# Altium schematic symbol library Sensor_Current.SchLib: 261 symbols (part 2 of 3)
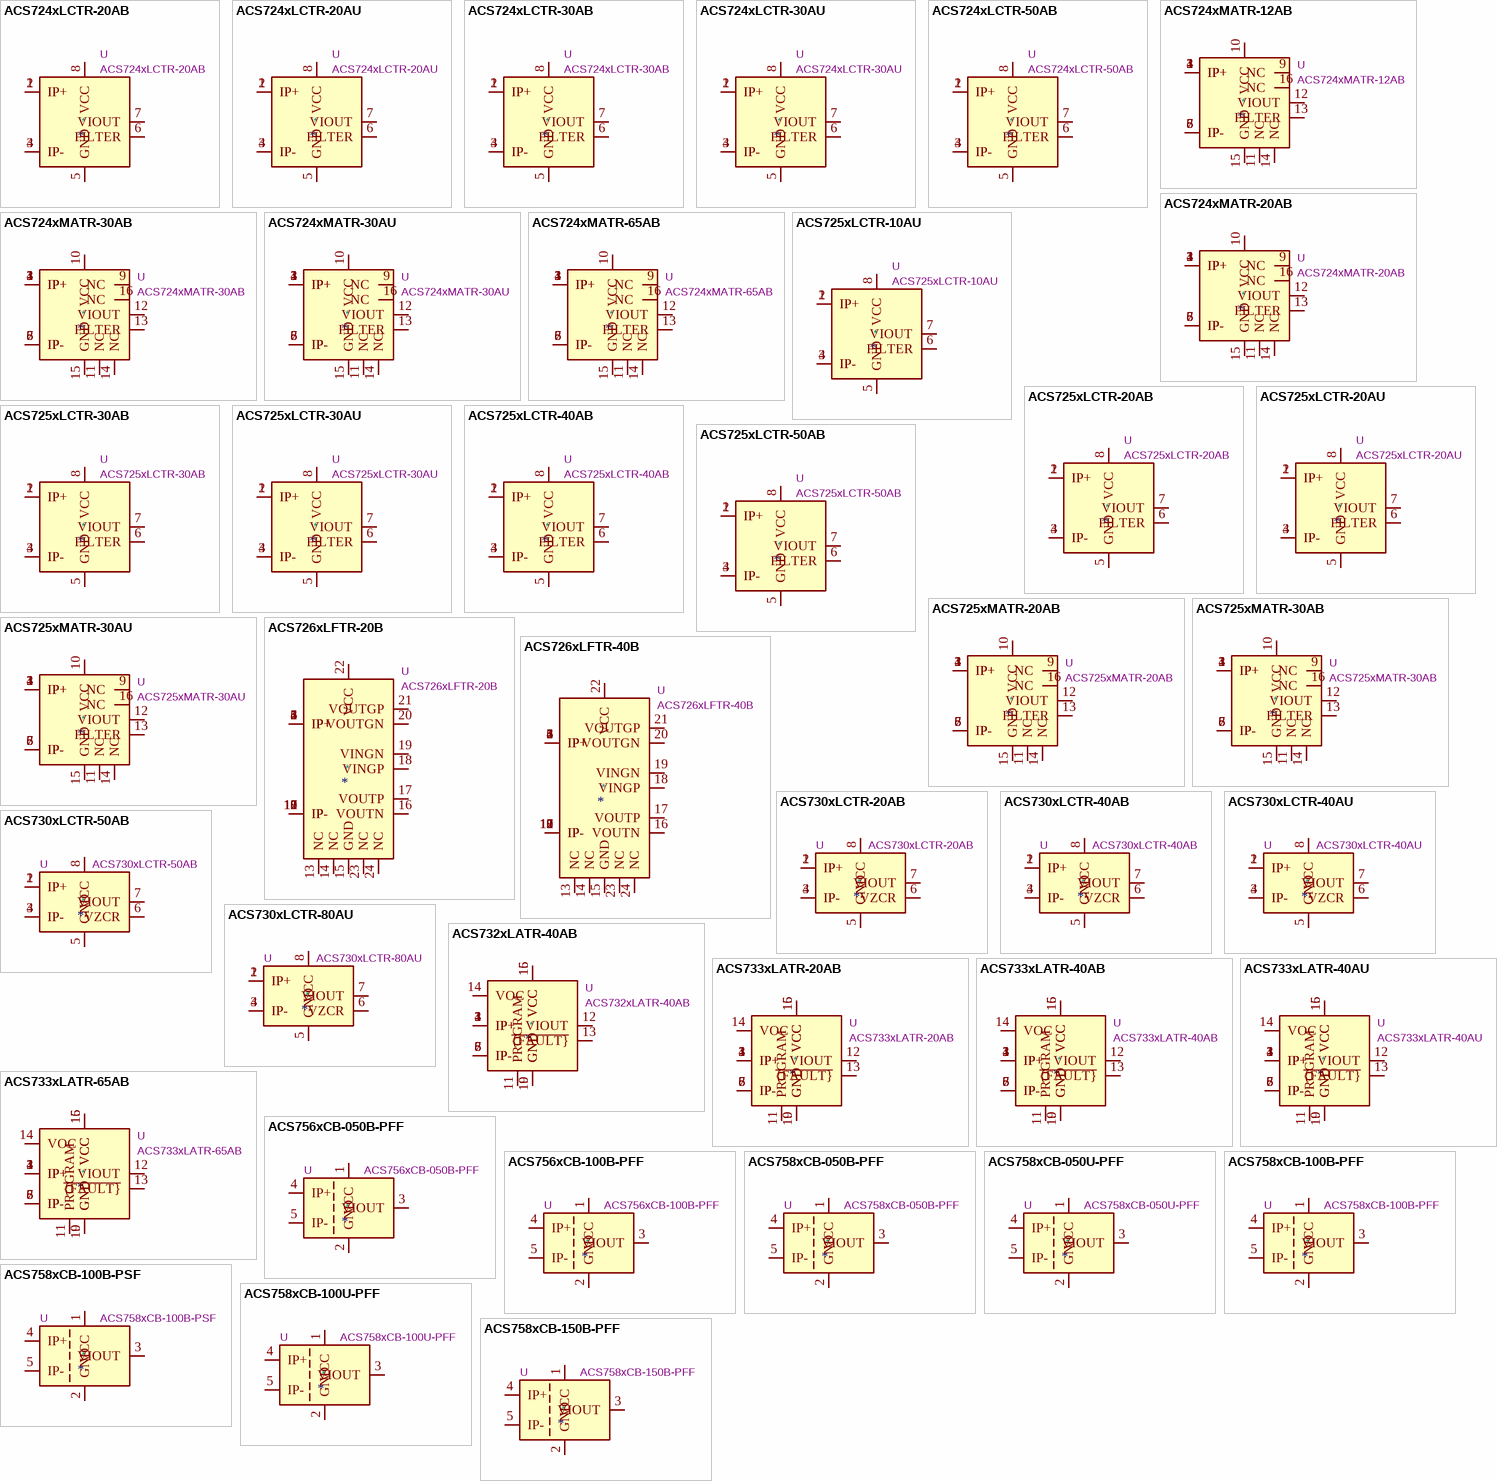
[diagram p7: symbols ACS724xLCTR-20AB to ACS758xCB-150B-PFF]

## ACS724xMATR-20AB
designator *  value ACS724xMATR-20AB  Reference: U
±20A Bidirectional Hall-Effect Current Sensor, +5.0V supply, 100mV/A, SOIC-16; ki_keywords: hall effect current monitor sensor isolated; ki_fp_filters: SOIC*7.5x10.3mm*P1.27mm*; Footprint: Package_SO:SOIC-16W_7.5x10.3mm_P1.27mm; Datasheet: http://www.allegromicro.com/~/media/Files/Datasheets/ACS724KMA-Datasheet.ashx?la=en; Description_: ±20A Bidirectional Hall-Effect Current Sensor, +5.0V supply, 100mV/A, SOIC-16
pins: 1 IP+, 2 IP+, 3 IP+, 4 IP+, 5 IP-, 6 IP-, 7 IP-, 8 IP-, 9 NC, 10 VCC, 11 NC, 12 VIOUT, 13 FILTER, 14 NC, 15 GND, 16 NC

## ACS724xMATR-30AB
designator *  value ACS724xMATR-30AB  Reference: U
±30A Bidirectional Hall-Effect Current Sensor, +5.0V supply, 66mV/A, SOIC-16; ki_keywords: hall effect current monitor sensor isolated; ki_fp_filters: SOIC*7.5x10.3mm*P1.27mm*; Footprint: Package_SO:SOIC-16W_7.5x10.3mm_P1.27mm; Datasheet: http://www.allegromicro.com/~/media/Files/Datasheets/ACS724KMA-Datasheet.ashx?la=en; Description_: ±30A Bidirectional Hall-Effect Current Sensor, +5.0V supply, 66mV/A, SOIC-16
pins: 1 IP+, 2 IP+, 3 IP+, 4 IP+, 5 IP-, 6 IP-, 7 IP-, 8 IP-, 9 NC, 10 VCC, 11 NC, 12 VIOUT, 13 FILTER, 14 NC, 15 GND, 16 NC

## ACS724xMATR-30AU
designator *  value ACS724xMATR-30AU  Reference: U
30A Unidirectional Hall-Effect Current Sensor, +5.0V supply, 132mV/A, SOIC-16; ki_keywords: hall effect current monitor sensor isolated; ki_fp_filters: SOIC*7.5x10.3mm*P1.27mm*; Footprint: Package_SO:SOIC-16W_7.5x10.3mm_P1.27mm; Datasheet: http://www.allegromicro.com/~/media/Files/Datasheets/ACS724KMA-Datasheet.ashx?la=en; Description_: 30A Unidirectional Hall-Effect Current Sensor, +5.0V supply, 132mV/A, SOIC-16
pins: 1 IP+, 2 IP+, 3 IP+, 4 IP+, 5 IP-, 6 IP-, 7 IP-, 8 IP-, 9 NC, 10 VCC, 11 NC, 12 VIOUT, 13 FILTER, 14 NC, 15 GND, 16 NC

## ACS724xMATR-65AB
designator *  value ACS724xMATR-65AB  Reference: U
±65A Bidirectional Hall-Effect Current Sensor, +5.0V supply, 30.75mV/A, SOIC-16; ki_keywords: hall effect current monitor sensor isolated; ki_fp_filters: SOIC*7.5x10.3mm*P1.27mm*; Footprint: Package_SO:SOIC-16W_7.5x10.3mm_P1.27mm; Datasheet: http://www.allegromicro.com/~/media/Files/Datasheets/ACS724KMA-Datasheet.ashx?la=en; Description_: ±65A Bidirectional Hall-Effect Current Sensor, +5.0V supply, 30.75mV/A, SOIC-16
pins: 1 IP+, 2 IP+, 3 IP+, 4 IP+, 5 IP-, 6 IP-, 7 IP-, 8 IP-, 9 NC, 10 VCC, 11 NC, 12 VIOUT, 13 FILTER, 14 NC, 15 GND, 16 NC

## ACS725xLCTR-10AU
designator *  value ACS725xLCTR-10AU  Reference: U
10A Unidirectional Hall-Effect Current Sensor, +3.3V supply, 264mV/A, SOIC-8; ki_keywords: hall effect current monitor sensor isolated; ki_fp_filters: SOIC*3.9x4.9m*P1.27mm*; Footprint: Package_SO:SOIC-8_3.9x4.9mm_P1.27mm; Datasheet: http://www.allegromicro.com/~/media/Files/Datasheets/ACS725-Datasheet.ashx?la=en; Description_: 10A Unidirectional Hall-Effect Current Sensor, +3.3V supply, 264mV/A, SOIC-8
pins: 1 IP+, 2 IP+, 3 IP-, 4 IP-, 5 GND, 6 FILTER, 7 VIOUT, 8 VCC

## ACS725xLCTR-20AB
designator *  value ACS725xLCTR-20AB  Reference: U
±20A Bidirectional Hall-Effect Current Sensor, +3.3V supply, 66mV/A, SOIC-8; ki_keywords: hall effect current monitor sensor isolated; ki_fp_filters: SOIC*3.9x4.9m*P1.27mm*; Footprint: Package_SO:SOIC-8_3.9x4.9mm_P1.27mm; Datasheet: http://www.allegromicro.com/~/media/Files/Datasheets/ACS725-Datasheet.ashx?la=en; Description_: ±20A Bidirectional Hall-Effect Current Sensor, +3.3V supply, 66mV/A, SOIC-8
pins: 1 IP+, 2 IP+, 3 IP-, 4 IP-, 5 GND, 6 FILTER, 7 VIOUT, 8 VCC

## ACS725xLCTR-20AU
designator *  value ACS725xLCTR-20AU  Reference: U
20A Unidirectional Hall-Effect Current Sensor, +3.3V supply, 132mV/A, SOIC-8; ki_keywords: hall effect current monitor sensor isolated; ki_fp_filters: SOIC*3.9x4.9m*P1.27mm*; Footprint: Package_SO:SOIC-8_3.9x4.9mm_P1.27mm; Datasheet: http://www.allegromicro.com/~/media/Files/Datasheets/ACS725-Datasheet.ashx?la=en; Description_: 20A Unidirectional Hall-Effect Current Sensor, +3.3V supply, 132mV/A, SOIC-8
pins: 1 IP+, 2 IP+, 3 IP-, 4 IP-, 5 GND, 6 FILTER, 7 VIOUT, 8 VCC

## ACS725xLCTR-30AB
designator *  value ACS725xLCTR-30AB  Reference: U
±30A Bidirectional Hall-Effect Current Sensor, +3.3V supply, 44mV/A, SOIC-8; ki_keywords: hall effect current monitor sensor isolated; ki_fp_filters: SOIC*3.9x4.9m*P1.27mm*; Footprint: Package_SO:SOIC-8_3.9x4.9mm_P1.27mm; Datasheet: http://www.allegromicro.com/~/media/Files/Datasheets/ACS725-Datasheet.ashx?la=en; Description_: ±30A Bidirectional Hall-Effect Current Sensor, +3.3V supply, 44mV/A, SOIC-8
pins: 1 IP+, 2 IP+, 3 IP-, 4 IP-, 5 GND, 6 FILTER, 7 VIOUT, 8 VCC

## ACS725xLCTR-30AU
designator *  value ACS725xLCTR-30AU  Reference: U
30A Unidirectional Hall-Effect Current Sensor, +3.3V supply, 88mV/A, SOIC-8; ki_keywords: hall effect current monitor sensor isolated; ki_fp_filters: SOIC*3.9x4.9m*P1.27mm*; Footprint: Package_SO:SOIC-8_3.9x4.9mm_P1.27mm; Datasheet: http://www.allegromicro.com/~/media/Files/Datasheets/ACS725-Datasheet.ashx?la=en; Description_: 30A Unidirectional Hall-Effect Current Sensor, +3.3V supply, 88mV/A, SOIC-8
pins: 1 IP+, 2 IP+, 3 IP-, 4 IP-, 5 GND, 6 FILTER, 7 VIOUT, 8 VCC

## ACS725xLCTR-40AB
designator *  value ACS725xLCTR-40AB  Reference: U
±40A Bidirectional Hall-Effect Current Sensor, +3.3V supply, 33mV/A, SOIC-8; ki_keywords: hall effect current monitor sensor isolated; ki_fp_filters: SOIC*3.9x4.9m*P1.27mm*; Footprint: Package_SO:SOIC-8_3.9x4.9mm_P1.27mm; Datasheet: http://www.allegromicro.com/~/media/Files/Datasheets/ACS725-Datasheet.ashx?la=en; Description_: ±40A Bidirectional Hall-Effect Current Sensor, +3.3V supply, 33mV/A, SOIC-8
pins: 1 IP+, 2 IP+, 3 IP-, 4 IP-, 5 GND, 6 FILTER, 7 VIOUT, 8 VCC

## ACS725xLCTR-50AB
designator *  value ACS725xLCTR-50AB  Reference: U
±50A Bidirectional Hall-Effect Current Sensor, +3.3V supply, 26.4mV/A, SOIC-8; ki_keywords: hall effect current monitor sensor isolated; ki_fp_filters: SOIC*3.9x4.9m*P1.27mm*; Footprint: Package_SO:SOIC-8_3.9x4.9mm_P1.27mm; Datasheet: http://www.allegromicro.com/~/media/Files/Datasheets/ACS725-Datasheet.ashx?la=en; Description_: ±50A Bidirectional Hall-Effect Current Sensor, +3.3V supply, 26.4mV/A, SOIC-8
pins: 1 IP+, 2 IP+, 3 IP-, 4 IP-, 5 GND, 6 FILTER, 7 VIOUT, 8 VCC

## ACS725xMATR-20AB
designator *  value ACS725xMATR-20AB  Reference: U
±20A Bidirectional Hall-Effect Current Sensor, +3.3V supply, 66mV/A, SOIC-16; ki_keywords: hall effect current monitor sensor isolated; ki_fp_filters: SOIC*7.5x10.3mm*P1.27mm*; Footprint: Package_SO:SOIC-16W_7.5x10.3mm_P1.27mm; Datasheet: http://www.allegromicro.com/~/media/Files/Datasheets/ACS725KMA-Datasheet.ashx?la=en; Description_: ±20A Bidirectional Hall-Effect Current Sensor, +3.3V supply, 66mV/A, SOIC-16
pins: 1 IP+, 2 IP+, 3 IP+, 4 IP+, 5 IP-, 6 IP-, 7 IP-, 8 IP-, 9 NC, 10 VCC, 11 NC, 12 VIOUT, 13 FILTER, 14 NC, 15 GND, 16 NC

## ACS725xMATR-30AB
designator *  value ACS725xMATR-30AB  Reference: U
±30A Bidirectional Hall-Effect Current Sensor, +3.3V supply, 44mV/A, SOIC-16; ki_keywords: hall effect current monitor sensor isolated; ki_fp_filters: SOIC*7.5x10.3mm*P1.27mm*; Footprint: Package_SO:SOIC-16W_7.5x10.3mm_P1.27mm; Datasheet: http://www.allegromicro.com/~/media/Files/Datasheets/ACS725KMA-Datasheet.ashx?la=en; Description_: ±30A Bidirectional Hall-Effect Current Sensor, +3.3V supply, 44mV/A, SOIC-16
pins: 1 IP+, 2 IP+, 3 IP+, 4 IP+, 5 IP-, 6 IP-, 7 IP-, 8 IP-, 9 NC, 10 VCC, 11 NC, 12 VIOUT, 13 FILTER, 14 NC, 15 GND, 16 NC

## ACS725xMATR-30AU
designator *  value ACS725xMATR-30AU  Reference: U
30A Unidirectional Hall-Effect Current Sensor, +3.3V supply, 88mV/A, SOIC-16; ki_keywords: hall effect current monitor sensor isolated; ki_fp_filters: SOIC*7.5x10.3mm*P1.27mm*; Footprint: Package_SO:SOIC-16W_7.5x10.3mm_P1.27mm; Datasheet: http://www.allegromicro.com/~/media/Files/Datasheets/ACS725KMA-Datasheet.ashx?la=en; Description_: 30A Unidirectional Hall-Effect Current Sensor, +3.3V supply, 88mV/A, SOIC-16
pins: 1 IP+, 2 IP+, 3 IP+, 4 IP+, 5 IP-, 6 IP-, 7 IP-, 8 IP-, 9 NC, 10 VCC, 11 NC, 12 VIOUT, 13 FILTER, 14 NC, 15 GND, 16 NC

## ACS726xLFTR-20B
designator *  value ACS726xLFTR-20B  Reference: U
±20A Bidirectional Hall-Effect Current Sensor, +3.3V supply, 100mV/A, QSOP-24; ki_keywords: hall effect current monitor sensor isolated; ki_fp_filters: Allegro*QSOP*3.9x8.7mm*P0.635mm*; Footprint: Sensor_Current:Allegro_QSOP-24_3.9x8.7mm_P0.635mm; Datasheet: http://www.allegromicro.com/~/media/Files/Datasheets/ACS726-Datasheet.ashx?la=en; Description_: ±20A Bidirectional Hall-Effect Current Sensor, +3.3V supply, 100mV/A, QSOP-24
pins: 1 IP+, 2 IP+, 3 IP+, 4 IP+, 5 IP+, 6 IP+, 7 IP-, 8 IP-, 9 IP-, 10 IP-, 11 IP-, 12 IP-, 13 NC, 14 NC, 15 GND, 16 VOUTN, 17 VOUTP, 18 VINGP, 19 VINGN, 20 VOUTGN, 21 VOUTGP, 22 VCC, 23 NC, 24 NC

## ACS726xLFTR-40B
designator *  value ACS726xLFTR-40B  Reference: U
±40A Bidirectional Hall-Effect Current Sensor, +3.3V supply, 50mV/A, QSOP-24; ki_keywords: hall effect current monitor sensor isolated; ki_fp_filters: Allegro*QSOP*3.9x8.7mm*P0.635mm*; Footprint: Sensor_Current:Allegro_QSOP-24_3.9x8.7mm_P0.635mm; Datasheet: http://www.allegromicro.com/~/media/Files/Datasheets/ACS726-Datasheet.ashx?la=en; Description_: ±40A Bidirectional Hall-Effect Current Sensor, +3.3V supply, 50mV/A, QSOP-24
pins: 1 IP+, 2 IP+, 3 IP+, 4 IP+, 5 IP+, 6 IP+, 7 IP-, 8 IP-, 9 IP-, 10 IP-, 11 IP-, 12 IP-, 13 NC, 14 NC, 15 GND, 16 VOUTN, 17 VOUTP, 18 VINGP, 19 VINGN, 20 VOUTGN, 21 VOUTGP, 22 VCC, 23 NC, 24 NC

## ACS730xLCTR-20AB
designator *  value ACS730xLCTR-20AB  Reference: U
±20A Bidirectional Hall-Effect Current Sensor, +5.0V supply, 100mV/A, SOIC-8; ki_keywords: hall effect current monitor sensor isolated; ki_fp_filters: SOIC*3.9x4.9mm*P1.27mm*; Footprint: Package_SO:SOIC-8_3.9x4.9mm_P1.27mm; Datasheet: http://www.allegromicro.com/~/media/Files/Datasheets/ACS730-Datasheet.ashx?la=en; Description_: ±20A Bidirectional Hall-Effect Current Sensor, +5.0V supply, 100mV/A, SOIC-8
pins: 1 IP+, 2 IP+, 3 IP-, 4 IP-, 5 GND, 6 VZCR, 7 VIOUT, 8 VCC

## ACS730xLCTR-40AB
designator *  value ACS730xLCTR-40AB  Reference: U
±40A Bidirectional Hall-Effect Current Sensor, +5.0V supply, 50mV/A, SOIC-8; ki_keywords: hall effect current monitor sensor isolated; ki_fp_filters: SOIC*3.9x4.9mm*P1.27mm*; Footprint: Package_SO:SOIC-8_3.9x4.9mm_P1.27mm; Datasheet: http://www.allegromicro.com/~/media/Files/Datasheets/ACS730-Datasheet.ashx?la=en; Description_: ±40A Bidirectional Hall-Effect Current Sensor, +5.0V supply, 50mV/A, SOIC-8
pins: 1 IP+, 2 IP+, 3 IP-, 4 IP-, 5 GND, 6 VZCR, 7 VIOUT, 8 VCC

## ACS730xLCTR-40AU
designator *  value ACS730xLCTR-40AU  Reference: U
40A Unidirectional Hall-Effect Current Sensor, +5.0V supply, 100mV/A, SOIC-8; ki_keywords: hall effect current monitor sensor isolated; ki_fp_filters: SOIC*3.9x4.9mm*P1.27mm*; Footprint: Package_SO:SOIC-8_3.9x4.9mm_P1.27mm; Datasheet: http://www.allegromicro.com/~/media/Files/Datasheets/ACS730-Datasheet.ashx?la=en; Description_: 40A Unidirectional Hall-Effect Current Sensor, +5.0V supply, 100mV/A, SOIC-8
pins: 1 IP+, 2 IP+, 3 IP-, 4 IP-, 5 GND, 6 VZCR, 7 VIOUT, 8 VCC

## ACS730xLCTR-50AB
designator *  value ACS730xLCTR-50AB  Reference: U
±50A Bidirectional Hall-Effect Current Sensor, +5.0V supply, 40mV/A, SOIC-8; ki_keywords: hall effect current monitor sensor isolated; ki_fp_filters: SOIC*3.9x4.9mm*P1.27mm*; Footprint: Package_SO:SOIC-8_3.9x4.9mm_P1.27mm; Datasheet: http://www.allegromicro.com/~/media/Files/Datasheets/ACS730-Datasheet.ashx?la=en; Description_: ±50A Bidirectional Hall-Effect Current Sensor, +5.0V supply, 40mV/A, SOIC-8
pins: 1 IP+, 2 IP+, 3 IP-, 4 IP-, 5 GND, 6 VZCR, 7 VIOUT, 8 VCC

## ACS730xLCTR-80AU
designator *  value ACS730xLCTR-80AU  Reference: U
80A Unidirectional Hall-Effect Current Sensor, +5.0V supply, 50mV/A, SOIC-8; ki_keywords: hall effect current monitor sensor isolated; ki_fp_filters: SOIC*3.9x4.9mm*P1.27mm*; Footprint: Package_SO:SOIC-8_3.9x4.9mm_P1.27mm; Datasheet: http://www.allegromicro.com/~/media/Files/Datasheets/ACS730-Datasheet.ashx?la=en; Description_: 80A Unidirectional Hall-Effect Current Sensor, +5.0V supply, 50mV/A, SOIC-8
pins: 1 IP+, 2 IP+, 3 IP-, 4 IP-, 5 GND, 6 VZCR, 7 VIOUT, 8 VCC

## ACS732xLATR-40AB
designator *  value ACS732xLATR-40AB  Reference: U
±40A Bidirectional Hall-Effect Current Sensor, +5.0V supply, 50mV/A, SOIC-16; ki_keywords: hall effect current monitor sensor isolated; ki_fp_filters: SOIC*7.5x10.3mm*P1.27mm*; Footprint: Package_SO:SOIC-16W_7.5x10.3mm_P1.27mm; Datasheet: http://www.allegromicro.com/~/media/Files/Datasheets/ACS732-ACS733-Datasheet.ashx?la=en; Description_: ±40A Bidirectional Hall-Effect Current Sensor, +5.0V supply, 50mV/A, SOIC-16
pins: 1 IP+, 2 IP+, 3 IP+, 4 IP+, 5 IP-, 6 IP-, 7 IP-, 8 IP-, 9 GND, 10 GND, 11 PROGRAM, 12 VIOUT, 13 ~{{FAULT}}, 14 VOC, 15 VCC, 16 VCC

## ACS733xLATR-20AB
designator *  value ACS733xLATR-20AB  Reference: U
±20A Bidirectional Hall-Effect Current Sensor, +3.3V supply, 66mV/A, SOIC-16; ki_keywords: hall effect current monitor sensor isolated; ki_fp_filters: SOIC*7.5x10.3mm*P1.27mm*; Footprint: Package_SO:SOIC-16W_7.5x10.3mm_P1.27mm; Datasheet: http://www.allegromicro.com/~/media/Files/Datasheets/ACS732-ACS733-Datasheet.ashx?la=en; Description_: ±20A Bidirectional Hall-Effect Current Sensor, +3.3V supply, 66mV/A, SOIC-16
pins: 1 IP+, 2 IP+, 3 IP+, 4 IP+, 5 IP-, 6 IP-, 7 IP-, 8 IP-, 9 GND, 10 GND, 11 PROGRAM, 12 VIOUT, 13 ~{{FAULT}}, 14 VOC, 15 VCC, 16 VCC

## ACS733xLATR-40AB
designator *  value ACS733xLATR-40AB  Reference: U
±40A Bidirectional Hall-Effect Current Sensor, +3.3V supply, 33mV/A, SOIC-16; ki_keywords: hall effect current monitor sensor isolated; ki_fp_filters: SOIC*7.5x10.3mm*P1.27mm*; Footprint: Package_SO:SOIC-16W_7.5x10.3mm_P1.27mm; Datasheet: http://www.allegromicro.com/~/media/Files/Datasheets/ACS732-ACS733-Datasheet.ashx?la=en; Description_: ±40A Bidirectional Hall-Effect Current Sensor, +3.3V supply, 33mV/A, SOIC-16
pins: 1 IP+, 2 IP+, 3 IP+, 4 IP+, 5 IP-, 6 IP-, 7 IP-, 8 IP-, 9 GND, 10 GND, 11 PROGRAM, 12 VIOUT, 13 ~{{FAULT}}, 14 VOC, 15 VCC, 16 VCC

## ACS733xLATR-40AU
designator *  value ACS733xLATR-40AU  Reference: U
40A Unidirectional Hall-Effect Current Sensor, +3.3V supply, 66mV/A, SOIC-16; ki_keywords: hall effect current monitor sensor isolated; ki_fp_filters: SOIC*7.5x10.3mm*P1.27mm*; Footprint: Package_SO:SOIC-16W_7.5x10.3mm_P1.27mm; Datasheet: http://www.allegromicro.com/~/media/Files/Datasheets/ACS732-ACS733-Datasheet.ashx?la=en; Description_: 40A Unidirectional Hall-Effect Current Sensor, +3.3V supply, 66mV/A, SOIC-16
pins: 1 IP+, 2 IP+, 3 IP+, 4 IP+, 5 IP-, 6 IP-, 7 IP-, 8 IP-, 9 GND, 10 GND, 11 PROGRAM, 12 VIOUT, 13 ~{{FAULT}}, 14 VOC, 15 VCC, 16 VCC

## ACS733xLATR-65AB
designator *  value ACS733xLATR-65AB  Reference: U
±65A Unidirectional Hall-Effect Current Sensor, +3.3V supply, 20mV/A, SOIC-16; ki_keywords: hall effect current monitor sensor isolated; ki_fp_filters: SOIC*7.5x10.3mm*P1.27mm*; Footprint: Package_SO:SOIC-16W_7.5x10.3mm_P1.27mm; Datasheet: http://www.allegromicro.com/~/media/Files/Datasheets/ACS732-ACS733-Datasheet.ashx?la=en; Description_: ±65A Unidirectional Hall-Effect Current Sensor, +3.3V supply, 20mV/A, SOIC-16
pins: 1 IP+, 2 IP+, 3 IP+, 4 IP+, 5 IP-, 6 IP-, 7 IP-, 8 IP-, 9 GND, 10 GND, 11 PROGRAM, 12 VIOUT, 13 ~{{FAULT}}, 14 VOC, 15 VCC, 16 VCC

## ACS756xCB-050B-PFF
designator *  value ACS756xCB-050B-PFF  Reference: U
±50A Bidirectional Hall-Effect Current Sensor, +5.0V supply, 40mV/A, CB-5 PFF; ki_keywords: hall effect current monitor sensor isolated; ki_fp_filters: Allegro*CB*PFF*; Footprint: Sensor_Current:Allegro_CB_PFF; Datasheet: http://www.allegromicro.com/~/media/Files/Datasheets/ACS756-Datasheet.ashx?la=en; Description_: ±50A Bidirectional Hall-Effect Current Sensor, +5.0V supply, 40mV/A, CB-5 PFF
pins: 1 VCC, 2 GND, 3 VIOUT, 4 IP+, 5 IP-

## ACS756xCB-100B-PFF
designator *  value ACS756xCB-100B-PFF  Reference: U
±100A Bidirectional Hall-Effect Current Sensor, +5.0V supply, 20mV/A, CB-5 PFF; ki_keywords: hall effect current monitor sensor isolated; ki_fp_filters: Allegro*CB*PFF*; Footprint: Sensor_Current:Allegro_CB_PFF; Datasheet: http://www.allegromicro.com/~/media/Files/Datasheets/ACS756-Datasheet.ashx?la=en; Description_: ±100A Bidirectional Hall-Effect Current Sensor, +5.0V supply, 20mV/A, CB-5 PFF
pins: 1 VCC, 2 GND, 3 VIOUT, 4 IP+, 5 IP-

## ACS758xCB-050B-PFF
designator *  value ACS758xCB-050B-PFF  Reference: U
±50A Bidirectional Hall-Effect Current Sensor, +5.0V supply, 40mV/A, CB-5 PFF; ki_keywords: hall effect current monitor sensor isolated; ki_fp_filters: Allegro*CB*PFF*; Footprint: Sensor_Current:Allegro_CB_PFF; Datasheet: http://www.allegromicro.com/~/media/Files/Datasheets/ACS758-Datasheet.ashx?la=en; Description_: ±50A Bidirectional Hall-Effect Current Sensor, +5.0V supply, 40mV/A, CB-5 PFF
pins: 1 VCC, 2 GND, 3 VIOUT, 4 IP+, 5 IP-

## ACS758xCB-050U-PFF
designator *  value ACS758xCB-050U-PFF  Reference: U
50A Unidirectional Hall-Effect Current Sensor, +5.0V supply, 60mV/A, CB-5 PFF; ki_keywords: hall effect current monitor sensor isolated; ki_fp_filters: Allegro*CB*PFF*; Footprint: Sensor_Current:Allegro_CB_PFF; Datasheet: http://www.allegromicro.com/~/media/Files/Datasheets/ACS758-Datasheet.ashx?la=en; Description_: 50A Unidirectional Hall-Effect Current Sensor, +5.0V supply, 60mV/A, CB-5 PFF
pins: 1 VCC, 2 GND, 3 VIOUT, 4 IP+, 5 IP-

## ACS758xCB-100B-PFF
designator *  value ACS758xCB-100B-PFF  Reference: U
±100A Bidirectional Hall-Effect Current Sensor, +5.0V supply, 20mV/A, CB-5 PFF; ki_keywords: hall effect current monitor sensor isolated; ki_fp_filters: Allegro*CB*PFF*; Footprint: Sensor_Current:Allegro_CB_PFF; Datasheet: http://www.allegromicro.com/~/media/Files/Datasheets/ACS758-Datasheet.ashx?la=en; Description_: ±100A Bidirectional Hall-Effect Current Sensor, +5.0V supply, 20mV/A, CB-5 PFF
pins: 1 VCC, 2 GND, 3 VIOUT, 4 IP+, 5 IP-

## ACS758xCB-100B-PSF
designator *  value ACS758xCB-100B-PSF  Reference: U
±100A Bidirectional Hall-Effect Current Sensor, +5.0V supply, 20mV/A, CB-5 PSF; ki_keywords: hall effect current monitor sensor isolated; ki_fp_filters: Allegro*CB*PSF*; Footprint: Sensor_Current:Allegro_CB_PSF; Datasheet: http://www.allegromicro.com/~/media/Files/Datasheets/ACS758-Datasheet.ashx?la=en; Description_: ±100A Bidirectional Hall-Effect Current Sensor, +5.0V supply, 20mV/A, CB-5 PSF
pins: 1 VCC, 2 GND, 3 VIOUT, 4 IP+, 5 IP-

## ACS758xCB-100U-PFF
designator *  value ACS758xCB-100U-PFF  Reference: U
100A Unidirectional Hall-Effect Current Sensor, +5.0V supply, 40mV/A, CB-5 PFF; ki_keywords: hall effect current monitor sensor isolated; ki_fp_filters: Allegro*CB*PFF*; Footprint: Sensor_Current:Allegro_CB_PFF; Datasheet: http://www.allegromicro.com/~/media/Files/Datasheets/ACS758-Datasheet.ashx?la=en; Description_: 100A Unidirectional Hall-Effect Current Sensor, +5.0V supply, 40mV/A, CB-5 PFF
pins: 1 VCC, 2 GND, 3 VIOUT, 4 IP+, 5 IP-

## ACS758xCB-150B-PFF
designator *  value ACS758xCB-150B-PFF  Reference: U
±150A Bidirectional Hall-Effect Current Sensor, +5.0V supply, 13.3mV/A, CB-5 PFF; ki_keywords: hall effect current monitor sensor isolated; ki_fp_filters: Allegro*CB*PFF*; Footprint: Sensor_Current:Allegro_CB_PFF; Datasheet: http://www.allegromicro.com/~/media/Files/Datasheets/ACS758-Datasheet.ashx?la=en; Description_: ±150A Bidirectional Hall-Effect Current Sensor, +5.0V supply, 13.3mV/A, CB-5 PFF
pins: 1 VCC, 2 GND, 3 VIOUT, 4 IP+, 5 IP-

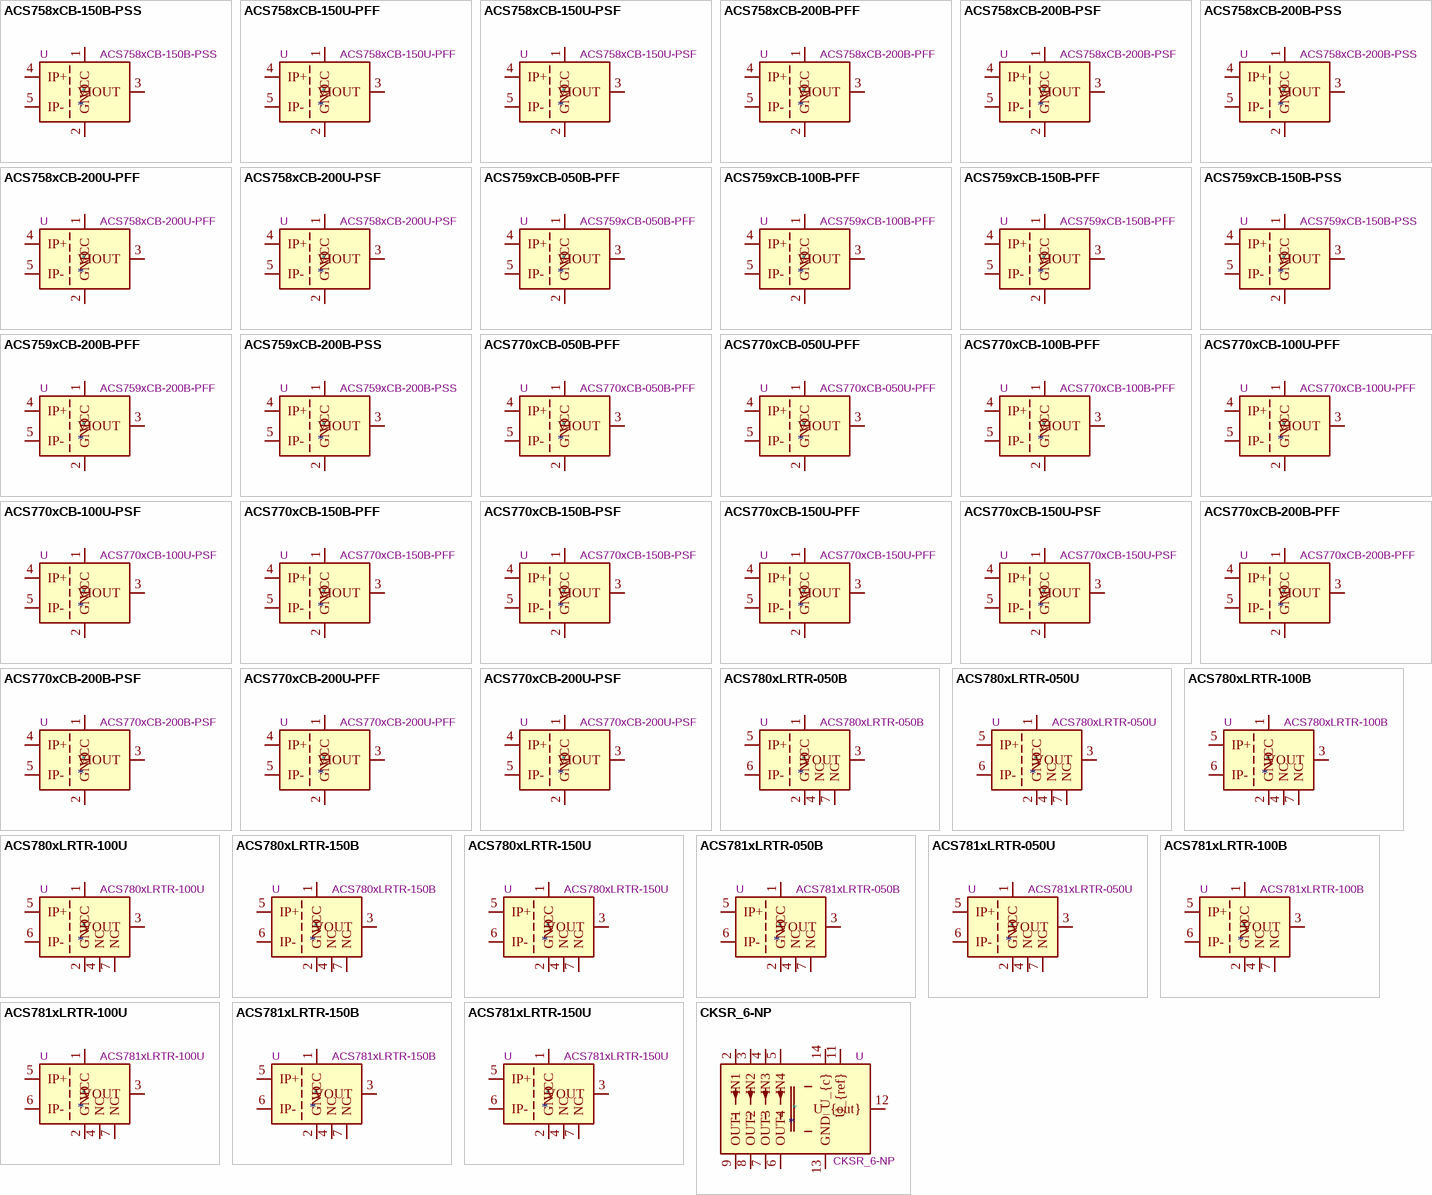
[diagram p3: symbols ACS758xCB-150B-PSS to CKSR_6-NP]

## ACS758xCB-150B-PSS
designator *  value ACS758xCB-150B-PSS  Reference: U
±150A Bidirectional Hall-Effect Current Sensor, +5.0V supply, 13.3mV/A, CB-5 PSS; ki_keywords: hall effect current monitor sensor isolated; ki_fp_filters: Allegro*CB*PSS*; Footprint: Sensor_Current:Allegro_CB_PSS; Datasheet: http://www.allegromicro.com/~/media/Files/Datasheets/ACS758-Datasheet.ashx?la=en; Description_: ±150A Bidirectional Hall-Effect Current Sensor, +5.0V supply, 13.3mV/A, CB-5 PSS
pins: 1 VCC, 2 GND, 3 VIOUT, 4 IP+, 5 IP-

## ACS758xCB-150U-PFF
designator *  value ACS758xCB-150U-PFF  Reference: U
150A Unidirectional Hall-Effect Current Sensor, +5.0V supply, 26.7mV/A, CB-5 PFF; ki_keywords: hall effect current monitor sensor isolated; ki_fp_filters: Allegro*CB*PFF*; Footprint: Sensor_Current:Allegro_CB_PFF; Datasheet: http://www.allegromicro.com/~/media/Files/Datasheets/ACS758-Datasheet.ashx?la=en; Description_: 150A Unidirectional Hall-Effect Current Sensor, +5.0V supply, 26.7mV/A, CB-5 PFF
pins: 1 VCC, 2 GND, 3 VIOUT, 4 IP+, 5 IP-

## ACS758xCB-150U-PSF
designator *  value ACS758xCB-150U-PSF  Reference: U
150A Unidirectional Hall-Effect Current Sensor, +5.0V supply, 26.7mV/A, CB-5 PSF; ki_keywords: hall effect current monitor sensor isolated; ki_fp_filters: Allegro*CB*PSF*; Footprint: Sensor_Current:Allegro_CB_PSF; Datasheet: http://www.allegromicro.com/~/media/Files/Datasheets/ACS758-Datasheet.ashx?la=en; Description_: 150A Unidirectional Hall-Effect Current Sensor, +5.0V supply, 26.7mV/A, CB-5 PSF
pins: 1 VCC, 2 GND, 3 VIOUT, 4 IP+, 5 IP-

## ACS758xCB-200B-PFF
designator *  value ACS758xCB-200B-PFF  Reference: U
±200A Bidirectional Hall-Effect Current Sensor, +5.0V supply, 10mV/A, CB-5 PFF; ki_keywords: hall effect current monitor sensor isolated; ki_fp_filters: Allegro*CB*PFF*; Footprint: Sensor_Current:Allegro_CB_PFF; Datasheet: http://www.allegromicro.com/~/media/Files/Datasheets/ACS758-Datasheet.ashx?la=en; Description_: ±200A Bidirectional Hall-Effect Current Sensor, +5.0V supply, 10mV/A, CB-5 PFF
pins: 1 VCC, 2 GND, 3 VIOUT, 4 IP+, 5 IP-

## ACS758xCB-200B-PSF
designator *  value ACS758xCB-200B-PSF  Reference: U
±200A Bidirectional Hall-Effect Current Sensor, +5.0V supply, 10mV/A, CB-5 PSF; ki_keywords: hall effect current monitor sensor isolated; ki_fp_filters: Allegro*CB*PSF*; Footprint: Sensor_Current:Allegro_CB_PSF; Datasheet: http://www.allegromicro.com/~/media/Files/Datasheets/ACS758-Datasheet.ashx?la=en; Description_: ±200A Bidirectional Hall-Effect Current Sensor, +5.0V supply, 10mV/A, CB-5 PSF
pins: 1 VCC, 2 GND, 3 VIOUT, 4 IP+, 5 IP-

## ACS758xCB-200B-PSS
designator *  value ACS758xCB-200B-PSS  Reference: U
±200A Bidirectional Hall-Effect Current Sensor, +5.0V supply, 10mV/A, CB-5 PSS; ki_keywords: hall effect current monitor sensor isolated; ki_fp_filters: Allegro*CB*PSS*; Footprint: Sensor_Current:Allegro_CB_PSS; Datasheet: http://www.allegromicro.com/~/media/Files/Datasheets/ACS758-Datasheet.ashx?la=en; Description_: ±200A Bidirectional Hall-Effect Current Sensor, +5.0V supply, 10mV/A, CB-5 PSS
pins: 1 VCC, 2 GND, 3 VIOUT, 4 IP+, 5 IP-

## ACS758xCB-200U-PFF
designator *  value ACS758xCB-200U-PFF  Reference: U
200A Unidirectional Hall-Effect Current Sensor, +5.0V supply, 20mV/A, CB-5 PFF; ki_keywords: hall effect current monitor sensor isolated; ki_fp_filters: Allegro*CB*PFF*; Footprint: Sensor_Current:Allegro_CB_PFF; Datasheet: http://www.allegromicro.com/~/media/Files/Datasheets/ACS758-Datasheet.ashx?la=en; Description_: 200A Unidirectional Hall-Effect Current Sensor, +5.0V supply, 20mV/A, CB-5 PFF
pins: 1 VCC, 2 GND, 3 VIOUT, 4 IP+, 5 IP-

## ACS758xCB-200U-PSF
designator *  value ACS758xCB-200U-PSF  Reference: U
200A Unidirectional Hall-Effect Current Sensor, +5.0V supply, 20mV/A, CB-5 PSF; ki_keywords: hall effect current monitor sensor isolated; ki_fp_filters: Allegro*CB*PSF*; Footprint: Sensor_Current:Allegro_CB_PSF; Datasheet: http://www.allegromicro.com/~/media/Files/Datasheets/ACS758-Datasheet.ashx?la=en; Description_: 200A Unidirectional Hall-Effect Current Sensor, +5.0V supply, 20mV/A, CB-5 PSF
pins: 1 VCC, 2 GND, 3 VIOUT, 4 IP+, 5 IP-

## ACS759xCB-050B-PFF
designator *  value ACS759xCB-050B-PFF  Reference: U
±50A Bidirectional Hall-Effect Current Sensor, +3.3V supply, 26.4mV/A, CB-5 PFF; ki_keywords: hall effect current monitor sensor isolated; ki_fp_filters: Allegro*CB*PFF*; Footprint: Sensor_Current:Allegro_CB_PFF; Datasheet: http://www.allegromicro.com/~/media/Files/Datasheets/ACS759-Datasheet.ashx?la=en; Description_: ±50A Bidirectional Hall-Effect Current Sensor, +3.3V supply, 26.4mV/A, CB-5 PFF
pins: 1 VCC, 2 GND, 3 VIOUT, 4 IP+, 5 IP-

## ACS759xCB-100B-PFF
designator *  value ACS759xCB-100B-PFF  Reference: U
±100A Bidirectional Hall-Effect Current Sensor, +3.3V supply, 13.2mV/A, CB-5 PFF; ki_keywords: hall effect current monitor sensor isolated; ki_fp_filters: Allegro*CB*PFF*; Footprint: Sensor_Current:Allegro_CB_PFF; Datasheet: http://www.allegromicro.com/~/media/Files/Datasheets/ACS759-Datasheet.ashx?la=en; Description_: ±100A Bidirectional Hall-Effect Current Sensor, +3.3V supply, 13.2mV/A, CB-5 PFF
pins: 1 VCC, 2 GND, 3 VIOUT, 4 IP+, 5 IP-

## ACS759xCB-150B-PFF
designator *  value ACS759xCB-150B-PFF  Reference: U
±150A Bidirectional Hall-Effect Current Sensor, +3.3V supply, 8.8mV/A, CB-5 PFF; ki_keywords: hall effect current monitor sensor isolated; ki_fp_filters: Allegro*CB*PFF*; Footprint: Sensor_Current:Allegro_CB_PFF; Datasheet: http://www.allegromicro.com/~/media/Files/Datasheets/ACS759-Datasheet.ashx?la=en; Description_: ±150A Bidirectional Hall-Effect Current Sensor, +3.3V supply, 8.8mV/A, CB-5 PFF
pins: 1 VCC, 2 GND, 3 VIOUT, 4 IP+, 5 IP-

## ACS759xCB-150B-PSS
designator *  value ACS759xCB-150B-PSS  Reference: U
±150A Bidirectional Hall-Effect Current Sensor, +3.3V supply, 8.8mV/A, CB-5 PSS; ki_keywords: hall effect current monitor sensor isolated; ki_fp_filters: Allegro*CB*PSS*; Footprint: Sensor_Current:Allegro_CB_PSS; Datasheet: http://www.allegromicro.com/~/media/Files/Datasheets/ACS759-Datasheet.ashx?la=en; Description_: ±150A Bidirectional Hall-Effect Current Sensor, +3.3V supply, 8.8mV/A, CB-5 PSS
pins: 1 VCC, 2 GND, 3 VIOUT, 4 IP+, 5 IP-

## ACS759xCB-200B-PFF
designator *  value ACS759xCB-200B-PFF  Reference: U
±200A Bidirectional Hall-Effect Current Sensor, +3.3V supply, 6.6mV/A, CB-5 PFF; ki_keywords: hall effect current monitor sensor isolated; ki_fp_filters: Allegro*CB*PFF*; Footprint: Sensor_Current:Allegro_CB_PFF; Datasheet: http://www.allegromicro.com/~/media/Files/Datasheets/ACS759-Datasheet.ashx?la=en; Description_: ±200A Bidirectional Hall-Effect Current Sensor, +3.3V supply, 6.6mV/A, CB-5 PFF
pins: 1 VCC, 2 GND, 3 VIOUT, 4 IP+, 5 IP-

## ACS759xCB-200B-PSS
designator *  value ACS759xCB-200B-PSS  Reference: U
±200A Bidirectional Hall-Effect Current Sensor, +3.3V supply, 6.6mV/A, CB-5 PSS; ki_keywords: hall effect current monitor sensor isolated; ki_fp_filters: Allegro*CB*PSS*; Footprint: Sensor_Current:Allegro_CB_PSS; Datasheet: http://www.allegromicro.com/~/media/Files/Datasheets/ACS759-Datasheet.ashx?la=en; Description_: ±200A Bidirectional Hall-Effect Current Sensor, +3.3V supply, 6.6mV/A, CB-5 PSS
pins: 1 VCC, 2 GND, 3 VIOUT, 4 IP+, 5 IP-

## ACS770xCB-050B-PFF
designator *  value ACS770xCB-050B-PFF  Reference: U
±50A Bidirectional Hall-Effect Current Sensor, +5.0V supply, 40mV/A, CB-5 PFF; ki_keywords: hall effect current monitor sensor isolated; ki_fp_filters: Allegro*CB*PFF*; Footprint: Sensor_Current:Allegro_CB_PFF; Datasheet: http://www.allegromicro.com/~/media/Files/Datasheets/ACS758-Datasheet.ashx?la=en; Description_: ±50A Bidirectional Hall-Effect Current Sensor, +5.0V supply, 40mV/A, CB-5 PFF
pins: 1 VCC, 2 GND, 3 VIOUT, 4 IP+, 5 IP-

## ACS770xCB-050U-PFF
designator *  value ACS770xCB-050U-PFF  Reference: U
50A Unidirectional Hall-Effect Current Sensor, +5.0V supply, 80mV/A, CB-5 PFF; ki_keywords: hall effect current monitor sensor isolated; ki_fp_filters: Allegro*CB*PFF*; Footprint: Sensor_Current:Allegro_CB_PFF; Datasheet: http://www.allegromicro.com/~/media/Files/Datasheets/ACS758-Datasheet.ashx?la=en; Description_: 50A Unidirectional Hall-Effect Current Sensor, +5.0V supply, 80mV/A, CB-5 PFF
pins: 1 VCC, 2 GND, 3 VIOUT, 4 IP+, 5 IP-

## ACS770xCB-100B-PFF
designator *  value ACS770xCB-100B-PFF  Reference: U
±100A Bidirectional Hall-Effect Current Sensor, +5.0V supply, 20mV/A, CB-5 PFF; ki_keywords: hall effect current monitor sensor isolated; ki_fp_filters: Allegro*CB*PFF*; Footprint: Sensor_Current:Allegro_CB_PFF; Datasheet: http://www.allegromicro.com/~/media/Files/Datasheets/ACS758-Datasheet.ashx?la=en; Description_: ±100A Bidirectional Hall-Effect Current Sensor, +5.0V supply, 20mV/A, CB-5 PFF
pins: 1 VCC, 2 GND, 3 VIOUT, 4 IP+, 5 IP-

## ACS770xCB-100U-PFF
designator *  value ACS770xCB-100U-PFF  Reference: U
100A Unidirectional Hall-Effect Current Sensor, +5.0V supply, 40mV/A, CB-5 PFF; ki_keywords: hall effect current monitor sensor isolated; ki_fp_filters: Allegro*CB*PFF*; Footprint: Sensor_Current:Allegro_CB_PFF; Datasheet: http://www.allegromicro.com/~/media/Files/Datasheets/ACS758-Datasheet.ashx?la=en; Description_: 100A Unidirectional Hall-Effect Current Sensor, +5.0V supply, 40mV/A, CB-5 PFF
pins: 1 VCC, 2 GND, 3 VIOUT, 4 IP+, 5 IP-

## ACS770xCB-100U-PSF
designator *  value ACS770xCB-100U-PSF  Reference: U
100A Unidirectional Hall-Effect Current Sensor, +5.0V supply, 40mV/A, CB-5 PSF; ki_keywords: hall effect current monitor sensor isolated; ki_fp_filters: Allegro*CB*PSF*; Footprint: Sensor_Current:Allegro_CB_PSF; Datasheet: http://www.allegromicro.com/~/media/Files/Datasheets/ACS758-Datasheet.ashx?la=en; Description_: 100A Unidirectional Hall-Effect Current Sensor, +5.0V supply, 40mV/A, CB-5 PSF
pins: 1 VCC, 2 GND, 3 VIOUT, 4 IP+, 5 IP-

## ACS770xCB-150B-PFF
designator *  value ACS770xCB-150B-PFF  Reference: U
±50A Bidirectional Hall-Effect Current Sensor, +5.0V supply, 13.3mV/A, CB-5 PFF; ki_keywords: hall effect current monitor sensor isolated; ki_fp_filters: Allegro*CB*PFF*; Footprint: Sensor_Current:Allegro_CB_PFF; Datasheet: http://www.allegromicro.com/~/media/Files/Datasheets/ACS758-Datasheet.ashx?la=en; Description_: ±50A Bidirectional Hall-Effect Current Sensor, +5.0V supply, 13.3mV/A, CB-5 PFF
pins: 1 VCC, 2 GND, 3 VIOUT, 4 IP+, 5 IP-

## ACS770xCB-150B-PSF
designator *  value ACS770xCB-150B-PSF  Reference: U
±50A Bidirectional Hall-Effect Current Sensor, +5.0V supply, 13.3mV/A, CB-5 PSF; ki_keywords: hall effect current monitor sensor isolated; ki_fp_filters: Allegro*CB*PSF*; Footprint: Sensor_Current:Allegro_CB_PSF; Datasheet: http://www.allegromicro.com/~/media/Files/Datasheets/ACS758-Datasheet.ashx?la=en; Description_: ±50A Bidirectional Hall-Effect Current Sensor, +5.0V supply, 13.3mV/A, CB-5 PSF
pins: 1 VCC, 2 GND, 3 VIOUT, 4 IP+, 5 IP-

## ACS770xCB-150U-PFF
designator *  value ACS770xCB-150U-PFF  Reference: U
50A Unidirectional Hall-Effect Current Sensor, +5.0V supply, 26.7mV/A, CB-5 PFF; ki_keywords: hall effect current monitor sensor isolated; ki_fp_filters: Allegro*CB*PFF*; Footprint: Sensor_Current:Allegro_CB_PFF; Datasheet: http://www.allegromicro.com/~/media/Files/Datasheets/ACS758-Datasheet.ashx?la=en; Description_: 50A Unidirectional Hall-Effect Current Sensor, +5.0V supply, 26.7mV/A, CB-5 PFF
pins: 1 VCC, 2 GND, 3 VIOUT, 4 IP+, 5 IP-

## ACS770xCB-150U-PSF
designator *  value ACS770xCB-150U-PSF  Reference: U
50A Unidirectional Hall-Effect Current Sensor, +5.0V supply, 26.7mV/A, CB-5 PSF; ki_keywords: hall effect current monitor sensor isolated; ki_fp_filters: Allegro*CB*PSF*; Footprint: Sensor_Current:Allegro_CB_PSF; Datasheet: http://www.allegromicro.com/~/media/Files/Datasheets/ACS758-Datasheet.ashx?la=en; Description_: 50A Unidirectional Hall-Effect Current Sensor, +5.0V supply, 26.7mV/A, CB-5 PSF
pins: 1 VCC, 2 GND, 3 VIOUT, 4 IP+, 5 IP-

## ACS770xCB-200B-PFF
designator *  value ACS770xCB-200B-PFF  Reference: U
±50A Bidirectional Hall-Effect Current Sensor, +5.0V supply, 10mV/A, CB-5 PFF; ki_keywords: hall effect current monitor sensor isolated; ki_fp_filters: Allegro*CB*PFF*; Footprint: Sensor_Current:Allegro_CB_PFF; Datasheet: http://www.allegromicro.com/~/media/Files/Datasheets/ACS758-Datasheet.ashx?la=en; Description_: ±50A Bidirectional Hall-Effect Current Sensor, +5.0V supply, 10mV/A, CB-5 PFF
pins: 1 VCC, 2 GND, 3 VIOUT, 4 IP+, 5 IP-

## ACS770xCB-200B-PSF
designator *  value ACS770xCB-200B-PSF  Reference: U
±50A Bidirectional Hall-Effect Current Sensor, +5.0V supply, 10mV/A, CB-5 PSF; ki_keywords: hall effect current monitor sensor isolated; ki_fp_filters: Allegro*CB*PSF*; Footprint: Sensor_Current:Allegro_CB_PSF; Datasheet: http://www.allegromicro.com/~/media/Files/Datasheets/ACS758-Datasheet.ashx?la=en; Description_: ±50A Bidirectional Hall-Effect Current Sensor, +5.0V supply, 10mV/A, CB-5 PSF
pins: 1 VCC, 2 GND, 3 VIOUT, 4 IP+, 5 IP-

## ACS770xCB-200U-PFF
designator *  value ACS770xCB-200U-PFF  Reference: U
50A Unidirectional Hall-Effect Current Sensor, +5.0V supply, 20mV/A, CB-5 PFF; ki_keywords: hall effect current monitor sensor isolated; ki_fp_filters: Allegro*CB*PFF*; Footprint: Sensor_Current:Allegro_CB_PFF; Datasheet: http://www.allegromicro.com/~/media/Files/Datasheets/ACS758-Datasheet.ashx?la=en; Description_: 50A Unidirectional Hall-Effect Current Sensor, +5.0V supply, 20mV/A, CB-5 PFF
pins: 1 VCC, 2 GND, 3 VIOUT, 4 IP+, 5 IP-

## ACS770xCB-200U-PSF
designator *  value ACS770xCB-200U-PSF  Reference: U
50A Unidirectional Hall-Effect Current Sensor, +5.0V supply, 20mV/A, CB-5 PSF; ki_keywords: hall effect current monitor sensor isolated; ki_fp_filters: Allegro*CB*PSF*; Footprint: Sensor_Current:Allegro_CB_PSF; Datasheet: http://www.allegromicro.com/~/media/Files/Datasheets/ACS758-Datasheet.ashx?la=en; Description_: 50A Unidirectional Hall-Effect Current Sensor, +5.0V supply, 20mV/A, CB-5 PSF
pins: 1 VCC, 2 GND, 3 VIOUT, 4 IP+, 5 IP-

## ACS780xLRTR-050B
designator *  value ACS780xLRTR-050B  Reference: U
±50A Bidirectional Hall-Effect Current Sensor, +5.0V supply, 40mV/A, PSOF-7; ki_keywords: hall effect current monitor sensor isolated; ki_fp_filters: Allegro*PSOF*4.8x6.4mm*P1.60mm*; Footprint: Sensor_Current:Allegro_PSOF-7_4.8x6.4mm_P1.60mm; Datasheet: http://www.allegromicro.com/~/media/Files/Datasheets/ACS780-Datasheet.ashx?la=en; Description_: ±50A Bidirectional Hall-Effect Current Sensor, +5.0V supply, 40mV/A, PSOF-7
pins: 1 VCC, 2 GND, 3 VOUT, 4 NC, 5 IP+, 6 IP-, 7 NC

## ACS780xLRTR-050U
designator *  value ACS780xLRTR-050U  Reference: U
50A Unidirectional Hall-Effect Current Sensor, +5.0V supply, 60mV/A, PSOF-7; ki_keywords: hall effect current monitor sensor isolated; ki_fp_filters: Allegro*PSOF*4.8x6.4mm*P1.60mm*; Footprint: Sensor_Current:Allegro_PSOF-7_4.8x6.4mm_P1.60mm; Datasheet: http://www.allegromicro.com/~/media/Files/Datasheets/ACS780-Datasheet.ashx?la=en; Description_: 50A Unidirectional Hall-Effect Current Sensor, +5.0V supply, 60mV/A, PSOF-7
pins: 1 VCC, 2 GND, 3 VOUT, 4 NC, 5 IP+, 6 IP-, 7 NC

## ACS780xLRTR-100B
designator *  value ACS780xLRTR-100B  Reference: U
±100A Bidirectional Hall-Effect Current Sensor, +5.0V supply, 20mV/A, PSOF-7; ki_keywords: hall effect current monitor sensor isolated; ki_fp_filters: Allegro*PSOF*4.8x6.4mm*P1.60mm*; Footprint: Sensor_Current:Allegro_PSOF-7_4.8x6.4mm_P1.60mm; Datasheet: http://www.allegromicro.com/~/media/Files/Datasheets/ACS780-Datasheet.ashx?la=en; Description_: ±100A Bidirectional Hall-Effect Current Sensor, +5.0V supply, 20mV/A, PSOF-7
pins: 1 VCC, 2 GND, 3 VOUT, 4 NC, 5 IP+, 6 IP-, 7 NC

## ACS780xLRTR-100U
designator *  value ACS780xLRTR-100U  Reference: U
100A Unidirectional Hall-Effect Current Sensor, +5.0V supply, 40mV/A, PSOF-7; ki_keywords: hall effect current monitor sensor isolated; ki_fp_filters: Allegro*PSOF*4.8x6.4mm*P1.60mm*; Footprint: Sensor_Current:Allegro_PSOF-7_4.8x6.4mm_P1.60mm; Datasheet: http://www.allegromicro.com/~/media/Files/Datasheets/ACS780-Datasheet.ashx?la=en; Description_: 100A Unidirectional Hall-Effect Current Sensor, +5.0V supply, 40mV/A, PSOF-7
pins: 1 VCC, 2 GND, 3 VOUT, 4 NC, 5 IP+, 6 IP-, 7 NC

## ACS780xLRTR-150B
designator *  value ACS780xLRTR-150B  Reference: U
±150A Bidirectional Hall-Effect Current Sensor, +5.0V supply, 13.33mV/A, PSOF-7; ki_keywords: hall effect current monitor sensor isolated; ki_fp_filters: Allegro*PSOF*4.8x6.4mm*P1.60mm*; Footprint: Sensor_Current:Allegro_PSOF-7_4.8x6.4mm_P1.60mm; Datasheet: http://www.allegromicro.com/~/media/Files/Datasheets/ACS780-Datasheet.ashx?la=en; Description_: ±150A Bidirectional Hall-Effect Current Sensor, +5.0V supply, 13.33mV/A, PSOF-7
pins: 1 VCC, 2 GND, 3 VOUT, 4 NC, 5 IP+, 6 IP-, 7 NC

## ACS780xLRTR-150U
designator *  value ACS780xLRTR-150U  Reference: U
150A Unidirectional Hall-Effect Current Sensor, +5.0V supply, 26.66mV/A, PSOF-7; ki_keywords: hall effect current monitor sensor isolated; ki_fp_filters: Allegro*PSOF*4.8x6.4mm*P1.60mm*; Footprint: Sensor_Current:Allegro_PSOF-7_4.8x6.4mm_P1.60mm; Datasheet: http://www.allegromicro.com/~/media/Files/Datasheets/ACS780-Datasheet.ashx?la=en; Description_: 150A Unidirectional Hall-Effect Current Sensor, +5.0V supply, 26.66mV/A, PSOF-7
pins: 1 VCC, 2 GND, 3 VOUT, 4 NC, 5 IP+, 6 IP-, 7 NC

## ACS781xLRTR-050B
designator *  value ACS781xLRTR-050B  Reference: U
±50A Bidirectional Hall-Effect Current Sensor, +3.3V supply, 26.4mV/A, PSOF-7; ki_keywords: hall effect current monitor sensor isolated; ki_fp_filters: Allegro*PSOF*4.8x6.4mm*P1.60mm*; Footprint: Sensor_Current:Allegro_PSOF-7_4.8x6.4mm_P1.60mm; Datasheet: http://www.allegromicro.com/~/media/Files/Datasheets/ACS780-Datasheet.ashx?la=en; Description_: ±50A Bidirectional Hall-Effect Current Sensor, +3.3V supply, 26.4mV/A, PSOF-7
pins: 1 VCC, 2 GND, 3 VOUT, 4 NC, 5 IP+, 6 IP-, 7 NC

## ACS781xLRTR-050U
designator *  value ACS781xLRTR-050U  Reference: U
50A Unidirectional Hall-Effect Current Sensor, +3.3V supply, 39.6mV/A, PSOF-7; ki_keywords: hall effect current monitor sensor isolated; ki_fp_filters: Allegro*PSOF*4.8x6.4mm*P1.60mm*; Footprint: Sensor_Current:Allegro_PSOF-7_4.8x6.4mm_P1.60mm; Datasheet: http://www.allegromicro.com/~/media/Files/Datasheets/ACS780-Datasheet.ashx?la=en; Description_: 50A Unidirectional Hall-Effect Current Sensor, +3.3V supply, 39.6mV/A, PSOF-7
pins: 1 VCC, 2 GND, 3 VOUT, 4 NC, 5 IP+, 6 IP-, 7 NC

## ACS781xLRTR-100B
designator *  value ACS781xLRTR-100B  Reference: U
±100A Bidirectional Hall-Effect Current Sensor, +3.3V supply, 13.2mV/A, PSOF-7; ki_keywords: hall effect current monitor sensor isolated; ki_fp_filters: Allegro*PSOF*4.8x6.4mm*P1.60mm*; Footprint: Sensor_Current:Allegro_PSOF-7_4.8x6.4mm_P1.60mm; Datasheet: http://www.allegromicro.com/~/media/Files/Datasheets/ACS780-Datasheet.ashx?la=en; Description_: ±100A Bidirectional Hall-Effect Current Sensor, +3.3V supply, 13.2mV/A, PSOF-7
pins: 1 VCC, 2 GND, 3 VOUT, 4 NC, 5 IP+, 6 IP-, 7 NC

## ACS781xLRTR-100U
designator *  value ACS781xLRTR-100U  Reference: U
100A Unidirectional Hall-Effect Current Sensor, +3.3V supply, 26.4mV/A, PSOF-7; ki_keywords: hall effect current monitor sensor isolated; ki_fp_filters: Allegro*PSOF*4.8x6.4mm*P1.60mm*; Footprint: Sensor_Current:Allegro_PSOF-7_4.8x6.4mm_P1.60mm; Datasheet: http://www.allegromicro.com/~/media/Files/Datasheets/ACS781-Datasheet.ashx?la=en; Description_: 100A Unidirectional Hall-Effect Current Sensor, +3.3V supply, 26.4mV/A, PSOF-7
pins: 1 VCC, 2 GND, 3 VOUT, 4 NC, 5 IP+, 6 IP-, 7 NC

## ACS781xLRTR-150B
designator *  value ACS781xLRTR-150B  Reference: U
±150A Bidirectional Hall-Effect Current Sensor, +3.3V supply, 8.8mV/A, PSOF-7; ki_keywords: hall effect current monitor sensor isolated; ki_fp_filters: Allegro*PSOF*4.8x6.4mm*P1.60mm*; Footprint: Sensor_Current:Allegro_PSOF-7_4.8x6.4mm_P1.60mm; Datasheet: http://www.allegromicro.com/~/media/Files/Datasheets/ACS781-Datsaheet.ashx?la=en; Description_: ±150A Bidirectional Hall-Effect Current Sensor, +3.3V supply, 8.8mV/A, PSOF-7
pins: 1 VCC, 2 GND, 3 VOUT, 4 NC, 5 IP+, 6 IP-, 7 NC

## ACS781xLRTR-150U
designator *  value ACS781xLRTR-150U  Reference: U
150A Unidirectional Hall-Effect Current Sensor, +3.3V supply, 17.6mV/A, PSOF-7; ki_keywords: hall effect current monitor sensor isolated; ki_fp_filters: Allegro*PSOF*4.8x6.4mm*P1.60mm*; Footprint: Sensor_Current:Allegro_PSOF-7_4.8x6.4mm_P1.60mm; Datasheet: http://www.allegromicro.com/~/media/Files/Datasheets/ACS781-Datsaheet.ashx?la=en; Description_: 150A Unidirectional Hall-Effect Current Sensor, +3.3V supply, 17.6mV/A, PSOF-7
pins: 1 VCC, 2 GND, 3 VOUT, 4 NC, 5 IP+, 6 IP-, 7 NC

## CKSR_6-NP
designator *  value CKSR_6-NP  Reference: U
Current Transducer, 6A, Unipolar, 0-5V Output, 4 Primary Windings; ki_keywords: Lem transformer; ki_fp_filters: LEM*CKSR*; Footprint: Sensor_Current:LEM_CKSR; Datasheet: https://www.lem.com/sites/default/files/products_datasheets/cksr_xx-np_v14.pdf; Description_: Current Transducer, 6A, Unipolar, 0-5V Output, 4 Primary Windings
pins: 2 IN1, 3 IN2, 4 IN3, 5 IN4, 6 OUT4, 7 OUT3, 8 OUT2, 9 OUT1, 11 U_{ref}, 12 U_{out}, 13 GND, 14 U_{c}

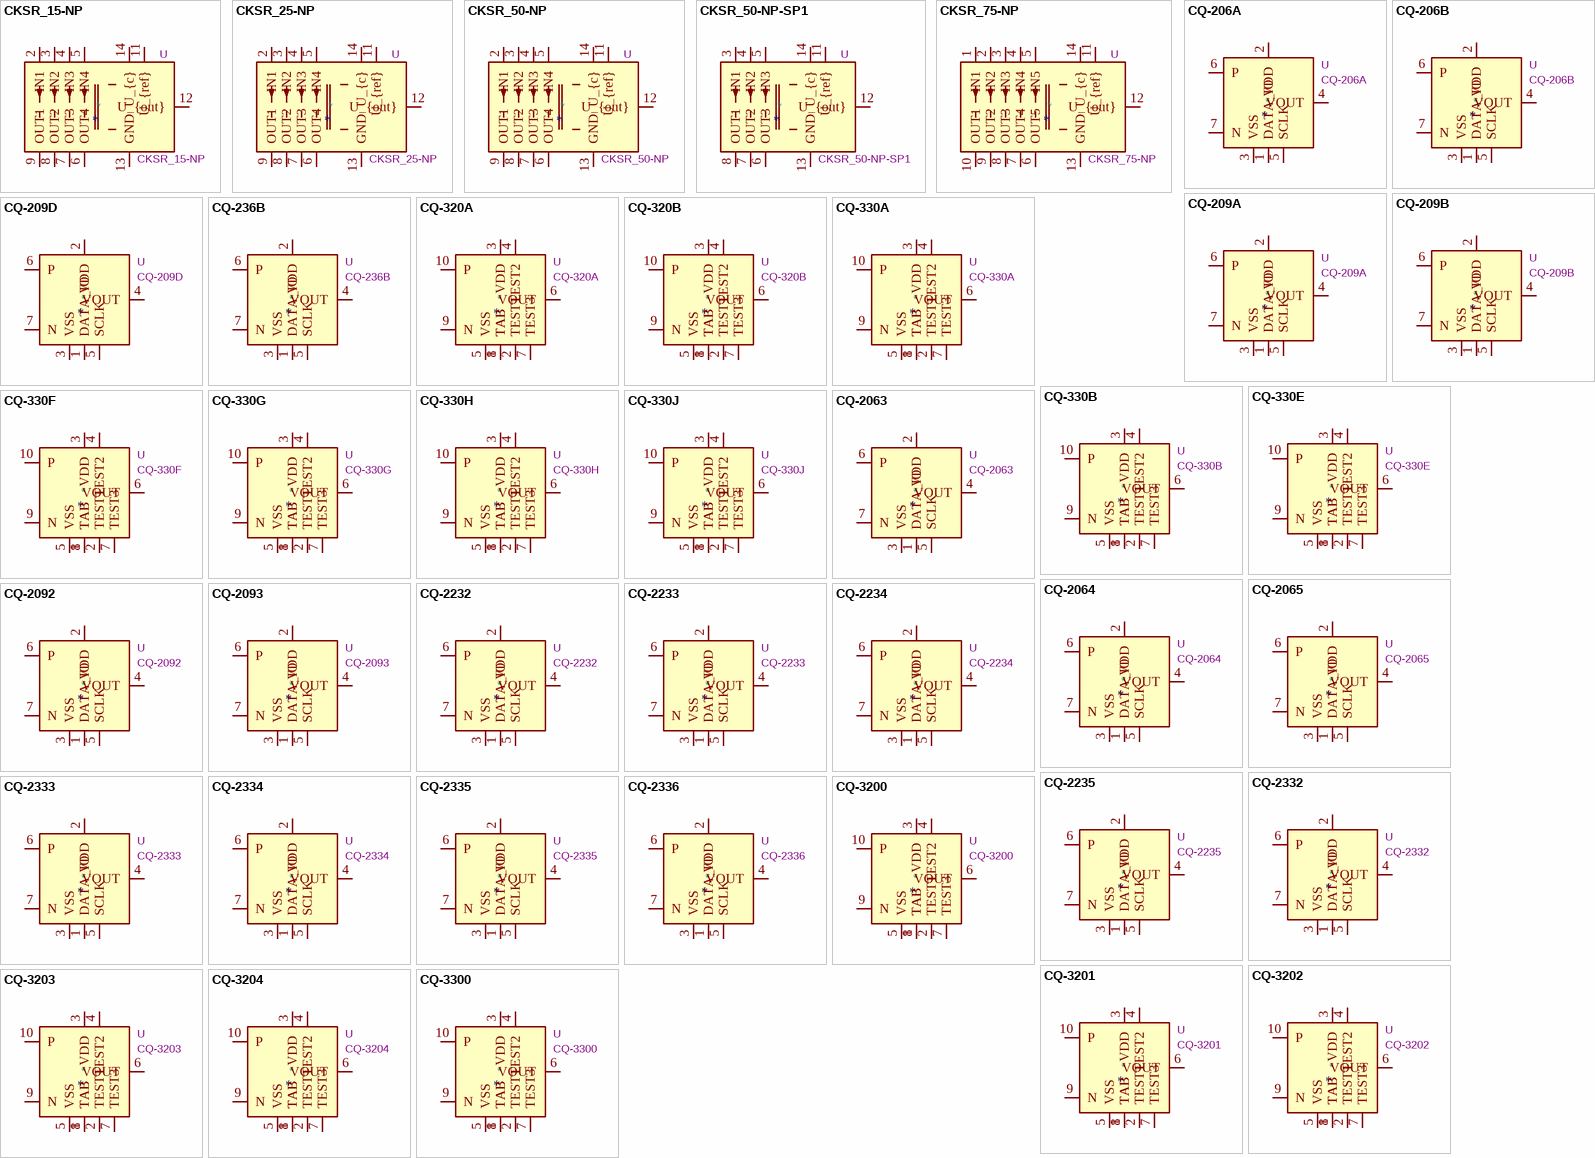
[diagram p4: symbols CKSR_15-NP to CQ-3300]

## CKSR_15-NP
designator *  value CKSR_15-NP  Reference: U
Current Transducer, 15A, Unipolar, 0-5V Output, 4 Primary Windings; ki_keywords: Lem transformer; ki_fp_filters: LEM*CKSR*; Footprint: Sensor_Current:LEM_CKSR; Datasheet: https://www.lem.com/sites/default/files/products_datasheets/cksr_xx-np_v14.pdf; Description_: Current Transducer, 15A, Unipolar, 0-5V Output, 4 Primary Windings
pins: 2 IN1, 3 IN2, 4 IN3, 5 IN4, 6 OUT4, 7 OUT3, 8 OUT2, 9 OUT1, 11 U_{ref}, 12 U_{out}, 13 GND, 14 U_{c}

## CKSR_25-NP
designator *  value CKSR_25-NP  Reference: U
Current Transducer, 25A, Unipolar, 0-5V Output, 4 Primary Windings; ki_keywords: Lem transformer; ki_fp_filters: LEM*CKSR*; Footprint: Sensor_Current:LEM_CKSR; Datasheet: https://www.lem.com/sites/default/files/products_datasheets/cksr_xx-np_v14.pdf; Description_: Current Transducer, 25A, Unipolar, 0-5V Output, 4 Primary Windings
pins: 2 IN1, 3 IN2, 4 IN3, 5 IN4, 6 OUT4, 7 OUT3, 8 OUT2, 9 OUT1, 11 U_{ref}, 12 U_{out}, 13 GND, 14 U_{c}

## CKSR_50-NP
designator *  value CKSR_50-NP  Reference: U
Current Transducer, 50A, Unipolar, 0-5V Output, 4 Primary Windings; ki_keywords: Lem transformer; ki_fp_filters: LEM*CKSR*; Footprint: Sensor_Current:LEM_CKSR; Datasheet: https://www.lem.com/sites/default/files/products_datasheets/cksr_xx-np_v14.pdf; Description_: Current Transducer, 50A, Unipolar, 0-5V Output, 4 Primary Windings
pins: 2 IN1, 3 IN2, 4 IN3, 5 IN4, 6 OUT4, 7 OUT3, 8 OUT2, 9 OUT1, 11 U_{ref}, 12 U_{out}, 13 GND, 14 U_{c}

## CKSR_50-NP-SP1
designator *  value CKSR_50-NP-SP1  Reference: U
Current Transducer, 50A, Unipolar, 0-5V Output, 3 Primary Windings; ki_keywords: Lem transformer; ki_fp_filters: LEM*CKSR*; Footprint: Sensor_Current:LEM_CKSR; Datasheet: https://www.lem.com/sites/default/files/products_datasheets/cksr_50-np_sp1_v3.pdf; Description_: Current Transducer, 50A, Unipolar, 0-5V Output, 3 Primary Windings
pins: 3 IN1, 4 IN2, 5 IN3, 6 OUT3, 7 OUT2, 8 OUT1, 11 U_{ref}, 12 U_{out}, 13 GND, 14 U_{c}

## CKSR_75-NP
designator *  value CKSR_75-NP  Reference: U
Current Transducer, 75A, Unipolar, 0-5V Output, 5 Primary Windings; ki_keywords: Lem transformer; ki_fp_filters: LEM*CKSR*; Footprint: Sensor_Current:LEM_CKSR; Datasheet: https://www.lem.com/sites/default/files/products_datasheets/cksr_75-np_v2.pdf; Description_: Current Transducer, 75A, Unipolar, 0-5V Output, 5 Primary Windings
pins: 1 IN1, 2 IN2, 3 IN3, 4 IN4, 5 IN5, 6 OUT5, 7 OUT4, 8 OUT3, 9 OUT2, 10 OUT1, 11 U_{ref}, 12 U_{out}, 13 GND, 14 U_{c}

## CQ-206A
designator *  value CQ-206A  Reference: U
High-Speed Small-Sized Current Sensor, Bidirectional, -46A to +46A, 45mV/A, CQ-7; ki_keywords: hall effect current sensor; ki_fp_filters: AKM*CQ*; Footprint: Sensor_Current:AKM_CQ_7; Datasheet: http://www.akm.com/akm/en/file/datasheet/CQ-206A.pdf; Description_: High-Speed Small-Sized Current Sensor, Bidirectional, -46A to +46A, 45mV/A, CQ-7
pins: 1 DATA_IO, 2 VDD, 3 VSS, 4 VOUT, 5 SCLK, 6 P, 7 N

## CQ-206B
designator *  value CQ-206B  Reference: U
High-Speed Small-Sized Current Sensor, Unidirectional, 0A to +45A, 90mV/A, CQ-7; ki_keywords: hall effect current sensor; ki_fp_filters: AKM*CQ*; Footprint: Sensor_Current:AKM_CQ_7; Datasheet: http://www.akm.com/akm/en/file/datasheet/CQ-206B.pdf; Description_: High-Speed Small-Sized Current Sensor, Unidirectional, 0A to +45A, 90mV/A, CQ-7
pins: 1 DATA_IO, 2 VDD, 3 VSS, 4 VOUT, 5 SCLK, 6 P, 7 N

## CQ-209A
designator *  value CQ-209A  Reference: U
High-Speed Small-Sized Current Sensor, Bidirectional, -31.8A to +31.8A, 66mV/A, CQ-7S; ki_keywords: hall effect current sensor; ki_fp_filters: AKM*CQ*S*; Footprint: Sensor_Current:AKM_CQ_7S; Datasheet: http://www.akm.com/akm/en/file/datasheet/CQ-209A.pdf; Description_: High-Speed Small-Sized Current Sensor, Bidirectional, -31.8A to +31.8A, 66mV/A, CQ-7S
pins: 1 DATA_IO, 2 VDD, 3 VSS, 4 VOUT, 5 SCLK, 6 P, 7 N

## CQ-209B
designator *  value CQ-209B  Reference: U
High-Speed Small-Sized Current Sensor, Unidirectional, -35A to 0A, 115mV/A, CQ-7S; ki_keywords: hall effect current sensor; ki_fp_filters: AKM*CQ*S*; Footprint: Sensor_Current:AKM_CQ_7S; Datasheet: http://www.akm.com/akm/en/file/datasheet/CQ-209B.pdf; Description_: High-Speed Small-Sized Current Sensor, Unidirectional, -35A to 0A, 115mV/A, CQ-7S
pins: 1 DATA_IO, 2 VDD, 3 VSS, 4 VOUT, 5 SCLK, 6 P, 7 N

## CQ-209D
designator *  value CQ-209D  Reference: U
High-Speed Small-Sized Current Sensor, Bidirectional, -41A to +41A, 50mV/A, CQ-7S; ki_keywords: hall effect current sensor; ki_fp_filters: AKM*CQ*S*; Footprint: Sensor_Current:AKM_CQ_7S; Datasheet: http://www.akm.com/akm/en/file/datasheet/CQ-209D.pdf; Description_: High-Speed Small-Sized Current Sensor, Bidirectional, -41A to +41A, 50mV/A, CQ-7S
pins: 1 DATA_IO, 2 VDD, 3 VSS, 4 VOUT, 5 SCLK, 6 P, 7 N

## CQ-236B
designator *  value CQ-236B  Reference: U
High-Speed Small-Sized Current Sensor, Unidirectional, 0A to +25A, 160mV/A, CQ-7; ki_keywords: hall effect current sensor; ki_fp_filters: AKM*CQ*; Footprint: Sensor_Current:AKM_CQ_7; Datasheet: http://www.akm.com/akm/en/file/datasheet/CQ-236B.pdf; Description_: High-Speed Small-Sized Current Sensor, Unidirectional, 0A to +25A, 160mV/A, CQ-7
pins: 1 DATA_IO, 2 VDD, 3 VSS, 4 VOUT, 5 SCLK, 6 P, 7 N

## CQ-320A
designator *  value CQ-320A  Reference: U
High-Speed Response Coreless Current Sensor, Bidirectional, -29.3A to +29.3A, 45mV/A, VSOP-24; ki_keywords: hall effect current sensor; ki_fp_filters: AKM*CQ*VSOP*5.6x7.9mm*P0.65mm*; Footprint: Sensor_Current:AKM_CQ_VSOP-24_5.6x7.9mm_P0.65mm; Datasheet: http://www.akm.com/akm/en/file/datasheet/CQ-320A.pdf; Description_: High-Speed Response Coreless Current Sensor, Bidirectional, -29.3A to +29.3A, 45mV/A, VSOP-24
pins: 1 TAB, 2 TEST1, 3 VDD, 4 TEST2, 5 VSS, 6 VOUT, 7 TEST3, 8 TAB, 9 N, 10 P

## CQ-320B
designator *  value CQ-320B  Reference: U
High-Speed Response Coreless Current Sensor, Unidirectional, -1.1A to +20.9A, 120mV/A, VSOP-24; ki_keywords: hall effect current sensor; ki_fp_filters: AKM*CQ*VSOP*5.6x7.9mm*P0.65mm*; Footprint: Sensor_Current:AKM_CQ_VSOP-24_5.6x7.9mm_P0.65mm; Datasheet: http://www.akm.com/akm/en/file/datasheet/CQ-320B.pdf; Description_: High-Speed Response Coreless Current Sensor, Unidirectional, -1.1A to +20.9A, 120mV/A, VSOP-24
pins: 1 TAB, 2 TEST1, 3 VDD, 4 TEST2, 5 VSS, 6 VOUT, 7 TEST3, 8 TAB, 9 N, 10 P

## CQ-330A
designator *  value CQ-330A  Reference: U
High-Speed Response Coreless Current Sensor, Bidirectional, -31.8A to +31.8A, 66mV/A, VSOP-24; ki_keywords: hall effect current sensor; ki_fp_filters: AKM*CQ*VSOP*5.6x7.9mm*P0.65mm*; Footprint: Sensor_Current:AKM_CQ_VSOP-24_5.6x7.9mm_P0.65mm; Datasheet: http://www.akm.com/akm/en/file/datasheet/CQ-330A.pdf; Description_: High-Speed Response Coreless Current Sensor, Bidirectional, -31.8A to +31.8A, 66mV/A, VSOP-24
pins: 1 TAB, 2 TEST1, 3 VDD, 4 TEST2, 5 VSS, 6 VOUT, 7 TEST3, 8 TAB, 9 N, 10 P

## CQ-330B
designator *  value CQ-330B  Reference: U
High-Speed Response Coreless Current Sensor, Unidirectional, 0A to +21.0A, 195mV/A, VSOP-24; ki_keywords: hall effect current sensor; ki_fp_filters: AKM*CQ*VSOP*5.6x7.9mm*P0.65mm*; Footprint: Sensor_Current:AKM_CQ_VSOP-24_5.6x7.9mm_P0.65mm; Datasheet: http://www.akm.com/akm/en/file/datasheet/CQ-330B.pdf; Description_: High-Speed Response Coreless Current Sensor, Unidirectional, 0A to +21.0A, 195mV/A, VSOP-24
pins: 1 TAB, 2 TEST1, 3 VDD, 4 TEST2, 5 VSS, 6 VOUT, 7 TEST3, 8 TAB, 9 N, 10 P

## CQ-330E
designator *  value CQ-330E  Reference: U
High-Speed Response Coreless Current Sensor, Unidirectional, 0A to +20.5A, 200mV/A, VSOP-24; ki_keywords: hall effect current sensor; ki_fp_filters: AKM*CQ*VSOP*5.6x7.9mm*P0.65mm*; Footprint: Sensor_Current:AKM_CQ_VSOP-24_5.6x7.9mm_P0.65mm; Datasheet: http://www.akm.com/akm/en/file/datasheet/CQ-330E.pdf; Description_: High-Speed Response Coreless Current Sensor, Unidirectional, 0A to +20.5A, 200mV/A, VSOP-24
pins: 1 TAB, 2 TEST1, 3 VDD, 4 TEST2, 5 VSS, 6 VOUT, 7 TEST3, 8 TAB, 9 N, 10 P

## CQ-330F
designator *  value CQ-330F  Reference: U
High-Speed Response Coreless Current Sensor, Unidirectional, -2.0A to +42.0A, 80mV/A, VSOP-24; ki_keywords: hall effect current sensor; ki_fp_filters: AKM*CQ*VSOP*5.6x7.9mm*P0.65mm*; Footprint: Sensor_Current:AKM_CQ_VSOP-24_5.6x7.9mm_P0.65mm; Datasheet: http://www.akm.com/akm/en/file/datasheet/CQ-330F.pdf; Description_: High-Speed Response Coreless Current Sensor, Unidirectional, -2.0A to +42.0A, 80mV/A, VSOP-24
pins: 1 TAB, 2 TEST1, 3 VDD, 4 TEST2, 5 VSS, 6 VOUT, 7 TEST3, 8 TAB, 9 N, 10 P

## CQ-330G
designator *  value CQ-330G  Reference: U
High-Speed Response Coreless Current Sensor, Bidirectional, -4.5A to +4.5A, 450mV/A, VSOP-24; ki_keywords: hall effect current sensor; ki_fp_filters: AKM*CQ*VSOP*5.6x7.9mm*P0.65mm*; Footprint: Sensor_Current:AKM_CQ_VSOP-24_5.6x7.9mm_P0.65mm; Datasheet: http://www.akm.com/akm/en/file/datasheet/CQ-330G.pdf; Description_: High-Speed Response Coreless Current Sensor, Bidirectional, -4.5A to +4.5A, 450mV/A, VSOP-24
pins: 1 TAB, 2 TEST1, 3 VDD, 4 TEST2, 5 VSS, 6 VOUT, 7 TEST3, 8 TAB, 9 N, 10 P